# EAGLE library part MCR1101 (library IC, Current Sensor MCR1101)
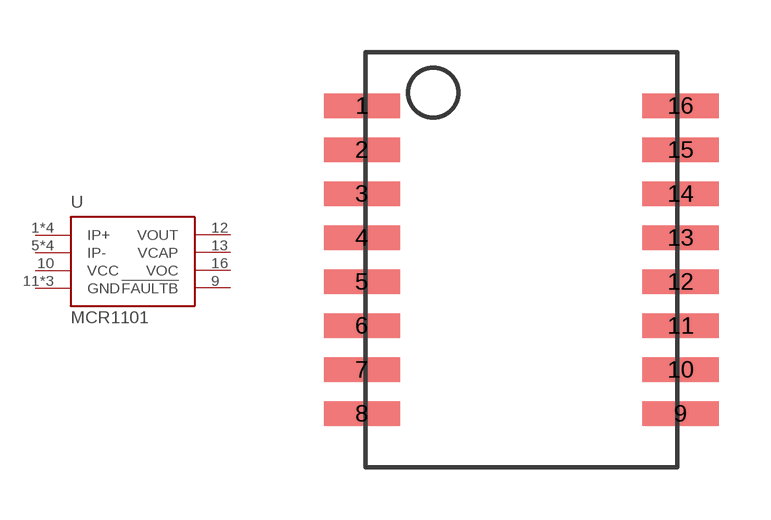
[diagram p0: symbol with the pads of SOIC-16; footprint SOIC-16]

Designator prefix -

## MCR1101  [SOIC-16]
1  IP+
2  IP+
3  IP+
4  IP+
5  IP-
6  IP-
7  IP-
8  IP-
9  !FAULTB
10  VCC
11  GND
12  VOUT
13  VCAP
14  GND
15  GND
16  VOC

## Footprint SOIC-16 (pad centres in mm)
smd 2.2 x 0.7: 1 -4.6,4.445; 2 -4.6,3.175; 3 -4.6,1.905; 4 -4.6,0.635; 5 -4.6,-0.635; 6 -4.6,-1.905; 7 -4.6,-3.175; 8 -4.6,-4.445; 9 4.6,-4.445; 10 4.6,-3.175; 11 4.6,-1.905; 12 4.6,-0.635; 13 4.6,0.635; 14 4.6,1.905; 15 4.6,3.175; 16 4.6,4.445